# EAGLE library part TXB0104 (library PP_DigitalIC)
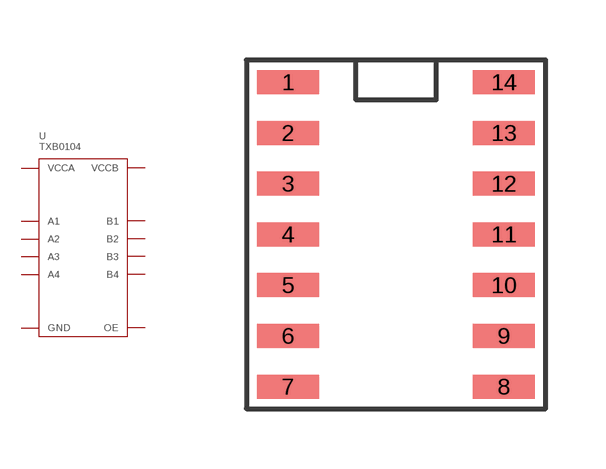
[diagram p42: symbol with the pads of TXB0104_SOIC-14; footprint TXB0104_SOIC-14]

Designator prefix U

## TXB0104DR (MPN: TXB0104DR; POPULATE: 1)  [TXB0104_SOIC-14]
1  VCCA
2  A1
3  A2
4  A3
5  A4
7  GND
8  OE
10  B4
11  B3
12  B2
13  B1
14  VCCB

## Footprint TXB0104_SOIC-14 (pad centres in mm)
smd 1.55 x 0.6: 1 -2.7,3.81; 2 -2.7,2.54; 3 -2.7,1.27; 4 -2.7,0; 5 -2.7,-1.27; 6 -2.7,-2.54; 7 -2.7,-3.81; 8 2.7,-3.81; 9 2.7,-2.54; 10 2.7,-1.27; 11 2.7,0; 12 2.7,1.27; 13 2.7,2.54; 14 2.7,3.81